# EAGLE library part 750315526 (library WE-OLTI)
WE-OLTI Offline Flyback Transformers Characteristics Nominal input voltage: 85–265 VAC (120–375 VDC) Small size Low leakage inductance Multiple-output options Operating temperature: −40 °C to +125 °C Isolation Voltage: 2 kVAC to 5 kVAC Options for fixed frequency or quasi-resonant mode operation Most products meet reinforced insulation Applications Industrial controls USB chargers Utility metering devices Process controls Factory automation Security systems Garage door opener auxiliary supplies Home appliances Especially designed for several ICs from Texas Instruments Details see: www.we-online.com/en/components/products/WE-OLTI Created by Ella 2025-02-06 2025 (C) Würth Elektronik
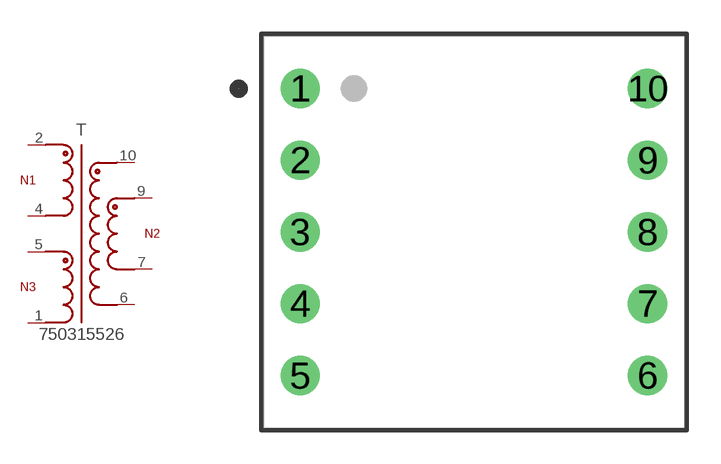
[diagram p0: symbol with the pads of WE-OLTI_EE16/7/5_L18.8W17.5H14.2; footprint WE-OLTI_EE16/7/5_L18.8W17.5H14.2]

Designator prefix T

## 750315526 (AUXILIARY_VOLTAGE_1: 20 V; CATEGORY: Transformers; DATASHEET: https://www.we-online.com/redexpert/spec/750315526?ae; HEIGHT: 13.8 mm; INDUCTANCE: 435 uH; INPUT_VOLTAGE: 85 - 265 V (AC); INSULATION_TEST_VOLTAGE: 3900 V (AC); LENGTH: 17.5 mm; MANUFACTURER: Würth Elektronik; MOUNT: THT; MPN: 750315526; OUTPUT_CURRENT_1: 2000 mA; OUTPUT_VOLTAGE_1: 5 V; SATURATION_CURRENT: 1.25 A; SIZE: EE16/7/5; SWITCHING-FREQUENCY: 100kHz; TURNS_RATIO: 13.2:1:3.8; VALUE: 435 uH; WIDTH: 18.8 mm)  [WE-OLTI_EE16/7/5_L18.8W17.5H14.2]
1  1  pas
2  2  pas
4  4  pas
5  5  pas
6  6  pas
7  7  pas
9  9  pas
10  10  pas

## Footprint WE-OLTI_EE16/7/5_L18.8W17.5H14.2 (pad centres in mm)
WE-OLTI Offline Flyback Transformers Size: EE16/7/5,THT,10pins LXWXH=18.8X17.5X14.2mm Bobbin: 070-5472
drill 1.17: 1 -7.75,6.4; 2 -7.75,3.2; 3 -7.75,0; 4 -7.75,-3.2; 5 -7.75,-6.4; 6 7.75,-6.4; 7 7.75,-3.2; 8 7.75,0; 9 7.75,3.2; 10 7.75,6.4